# EAGLE library part LTC3852 (library PowerProducts)
Low Input Voltage, Synchronous Step-Down DC/DC Controller
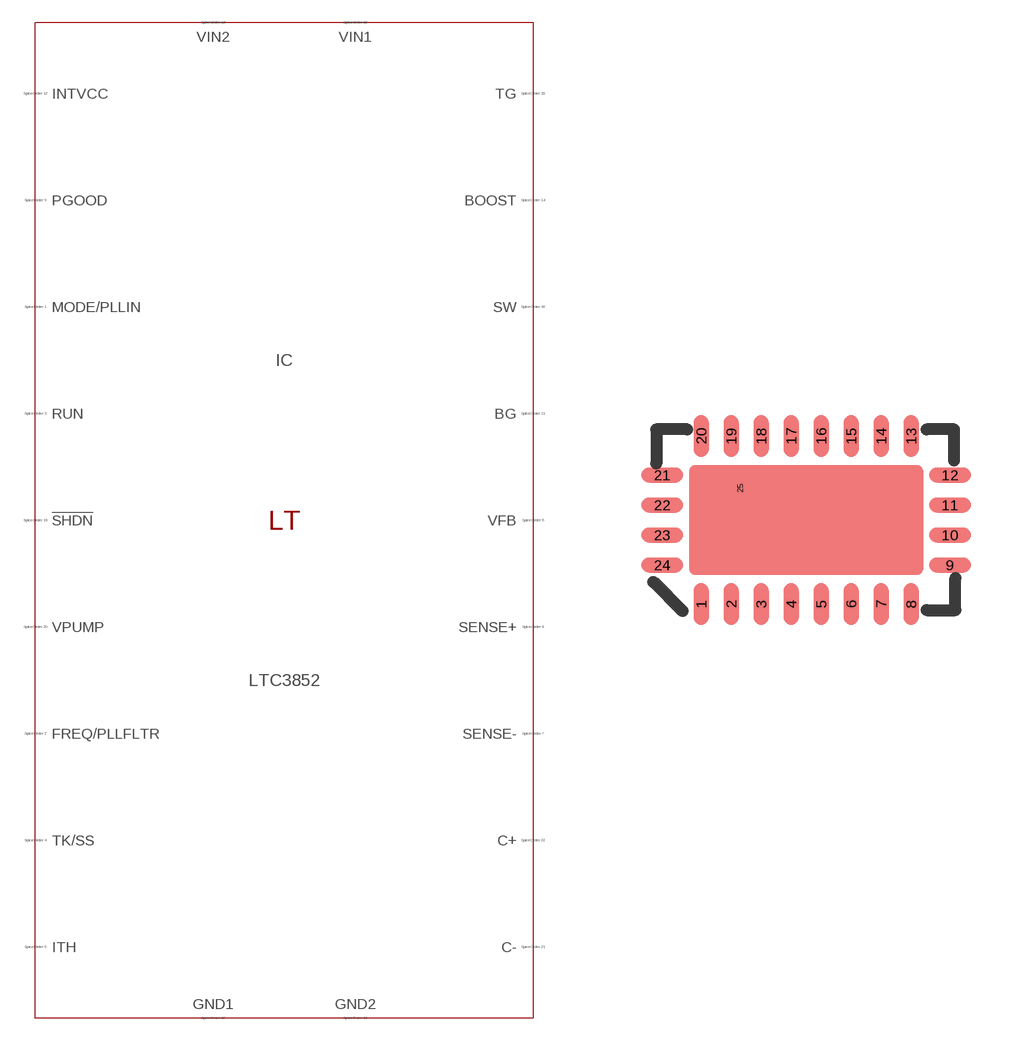
[diagram p369: symbol with the pads of QFN24(UDD); footprint QFN24(UDD)]

Designator prefix IC

## LTC3852 (SPICEMODEL: LTC3852.sub; SPICEPREFIX: X; VALUE2: LTC3852)  [QFN24(UDD)]
1  SENSE-  pas
2  SENSE+  pas
3  PGOOD  pas
4  GND2  pas
5  BG  pas
7  C+  pas
8  C-  pas
10  !SHDN  pas
11  GND1  pas
12  VIN1  pas
13  VPUMP  pas
14  INTVCC  pas
15  VIN2  pas
16  BOOST  pas
17  TG  pas
18  SW  pas
19  MODE/PLLIN  pas
20  FREQ/PLLFLTR  pas
21  RUN  pas
22  TK/SS  pas
23  ITH  pas
24  VFB  pas
25  GND1  pas

## Footprint QFN24(UDD) (pad centres in mm)
Package generated from: QFN24(UDD).asc (!PADS-POWERPCB-V9.3-BASIC! DESIGN DATABASE ASCII FILE 1.0) with :import-pads-powerpcb-v5.ulp Version 1.0.1 at 04.10.2012 14:11:24
smd 0.375 x 1.05: 1 -2.625,-2.1; 2 -1.875,-2.1; 3 -1.125,-2.1; 4 -0.375,-2.1; 5 0.375,-2.1; 6 1.125,-2.1; 7 1.875,-2.1; 8 2.625,-2.1; 13 2.625,2.1; 14 1.875,2.1; 15 1.125,2.1; 16 0.375,2.1; 17 -0.375,2.1; 18 -1.125,2.1; 19 -1.875,2.1; 20 -2.625,2.1
smd 1.05 x 0.375: 9 3.6,-1.125; 10 3.6,-0.375; 11 3.6,0.375; 12 3.6,1.125; 21 -3.6,1.125; 22 -3.6,0.375; 23 -3.6,-0.375; 24 -3.6,-1.125
smd 0 x 0.375: 25 -1.65,0.795